# Altium footprint library ARCOM_Transformers.PcbLib: 4 footprints
Each footprint in its own frame and in the unit in brackets; x right, y up, seen from the top. Pads: shape width x height; smd on the part's side, far side on the other; paste and mask are expansions set on the pad; w line width, h text height; cw(c..) or ccw(c..) is an arc to the next point about the centre after c.
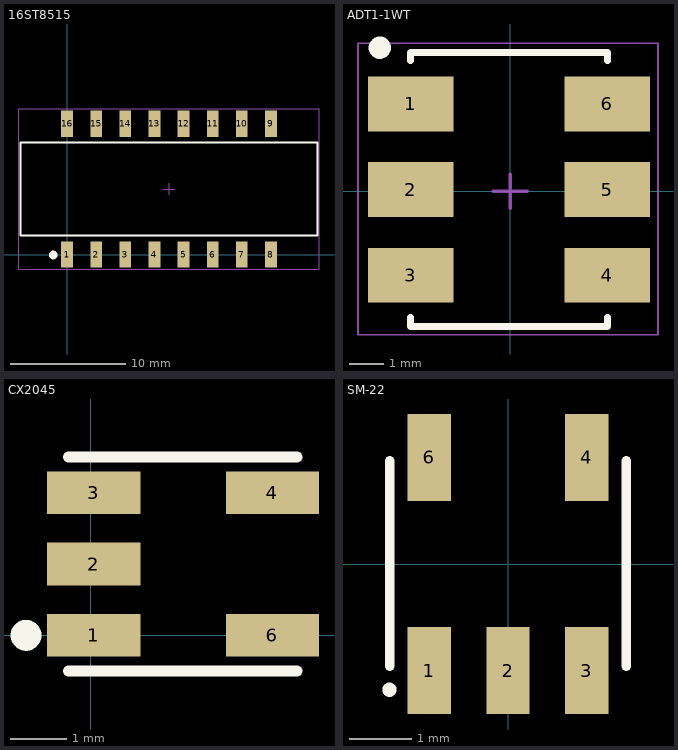
[diagram p0: the footprints below, top view; thin cyan lines are the x and y axes]

## 16ST8515 [mm] "SMD, 10-Leads, Body 13.5x14.0mm (max), Pitch 2.48mm, IPC Medium Density"
height 6.1
pads (16):
  rect 1.02x2.3 smd: 1(0,0) 2(2.54,0) 3(5.08,0) 4(7.62,0) 5(10.16,0) 6(12.7,0) 7(15.24,0) 8(17.78,0) 9(17.78,11.4) 10(15.24,11.4) 11(12.7,11.4) 12(10.16,11.4) 13(7.62,11.4) 14(5.08,11.4) 15(2.54,11.4) 16(0,11.4)
Top Overlay:
  circle w0.5: c-1.205,-0.039 r0.125
  lines w0.2: -4.064,1.651 21.844,1.651 21.844,9.779 -4.064,9.779 -4.064,1.651
M15 Top Assy:
  lines w0.05: -4.191,-1.27 -4.191,12.7 21.971,12.7 21.971,-1.27 -4.191,-1.27
  lines w0.1: 8.39,5.715 9.39,5.715 ; 8.89,5.215 8.89,6.215
3D body: height 6.1, standoff 0, extent -4.064,0.762 21.844,10.668

## ADT1-1WT [mm]
pads (6):
  rect 2.5x1.6 smd: 1(-2.91,2.547) 2(-2.91,0.047) 3(-2.91,-2.453) 4(2.84,-2.453) 5(2.84,0.047) 6(2.84,2.547)
Top Overlay:
  circle w0.4: c-3.81,4.191 r0.125
  lines w0.2: -2.91,-3.683 -2.91,-3.953 2.84,-3.953 2.84,-3.683 ; -2.91,3.81 -2.91,4.047 2.84,4.047 2.84,3.81
M15 Top Assy:
  lines w0.05: -4.445,-4.191 4.318,-4.191 4.318,4.318 -4.445,4.318 -4.445,-4.191
  lines w0.1: -0.5,0 0.5,0 ; 0,-0.5 0,0.5

## CX2045 [mm]
pads (5):
  rect 1.66x0.76 smd: 1(0.051,-0.004) 2(0.051,1.266) 3(0.051,2.536) 4(3.231,2.536) 6(3.231,-0.004)
Top Overlay:
  circle w0.3: c-1.155,-0.004 r0.125
  lines w0.2: -0.393,-0.639 3.671,-0.639 ; -0.393,3.171 3.671,3.171

## SM-22 [mm]
pads (5):
  rect 0.7x1.4 smd: 1(-1.27,-1.715) 2(0,-1.715) 3(1.27,-1.715) 4(1.27,1.715) 6(-1.27,1.715)
Top Overlay:
  circle w0.127: c-1.91,-2.024 r0.051
  lines w0.152: -1.905,-1.643 -1.905,0.008 -1.905,1.659 ; 1.905,-1.643 1.905,0.008 1.905,1.659
3D body "User Library-macom-sm22.STEP": height 2.83, standoff 0, extent -1.905,-2.413 1.905,2.413